# Altium footprint library Terminial_Block_2_5_0mm.PcbLib: 1 footprints
Each footprint in its own frame and in the unit in brackets; x right, y up, seen from the top. Pads: shape width x height; smd on the part's side, far side on the other; paste and mask are expansions set on the pad; w line width, h text height; cw(c..) or ccw(c..) is an arc to the next point about the centre after c.
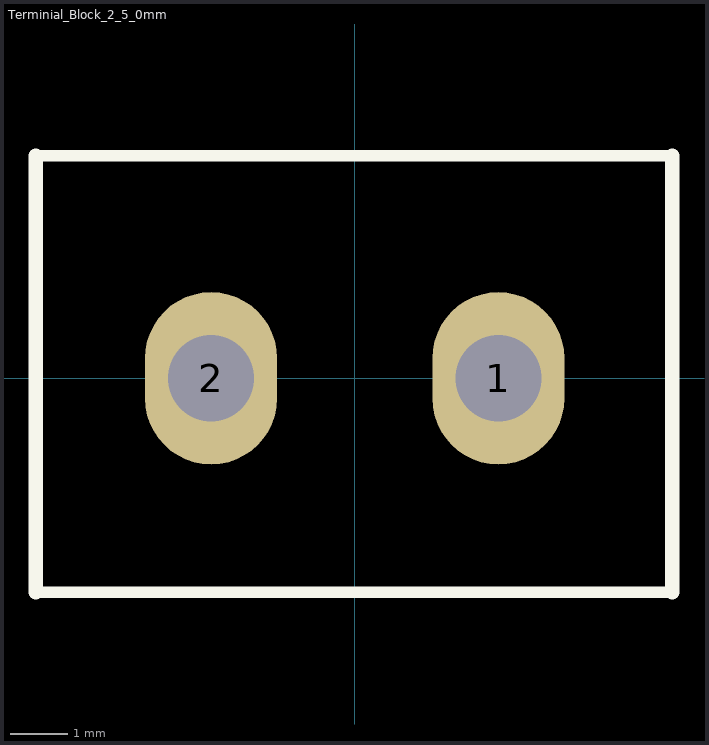
[diagram p0: the footprint, top view; thin cyan lines are the x and y axes]

## Terminial_Block_2_5_0mm [mm]
pads (2):
  oval 2.3x3 hole 1.5: 1(2.5,0) 2(-2.5,0)
Top Overlay:
  lines w0.203: -5.55,-3.725 5.525,-3.725 ; -5.55,3.875 5.525,3.875
  lines w0.254: -5.55,-3.725 -5.55,3.875 ; 5.525,-3.725 5.525,3.875
3D body: height 10, standoff -4, extent -5.55,-3.75 5.55,3.85